# Altium footprint library Led.PcbLib: 80 footprints (part 4 of 5)
Each footprint in its own frame and in the unit in brackets; x right, y up, seen from the top. Pads: shape width x height; smd on the part's side, far side on the other; paste and mask are expansions set on the pad; w line width, h text height; cw(c..) or ccw(c..) is an arc to the next point about the centre after c.
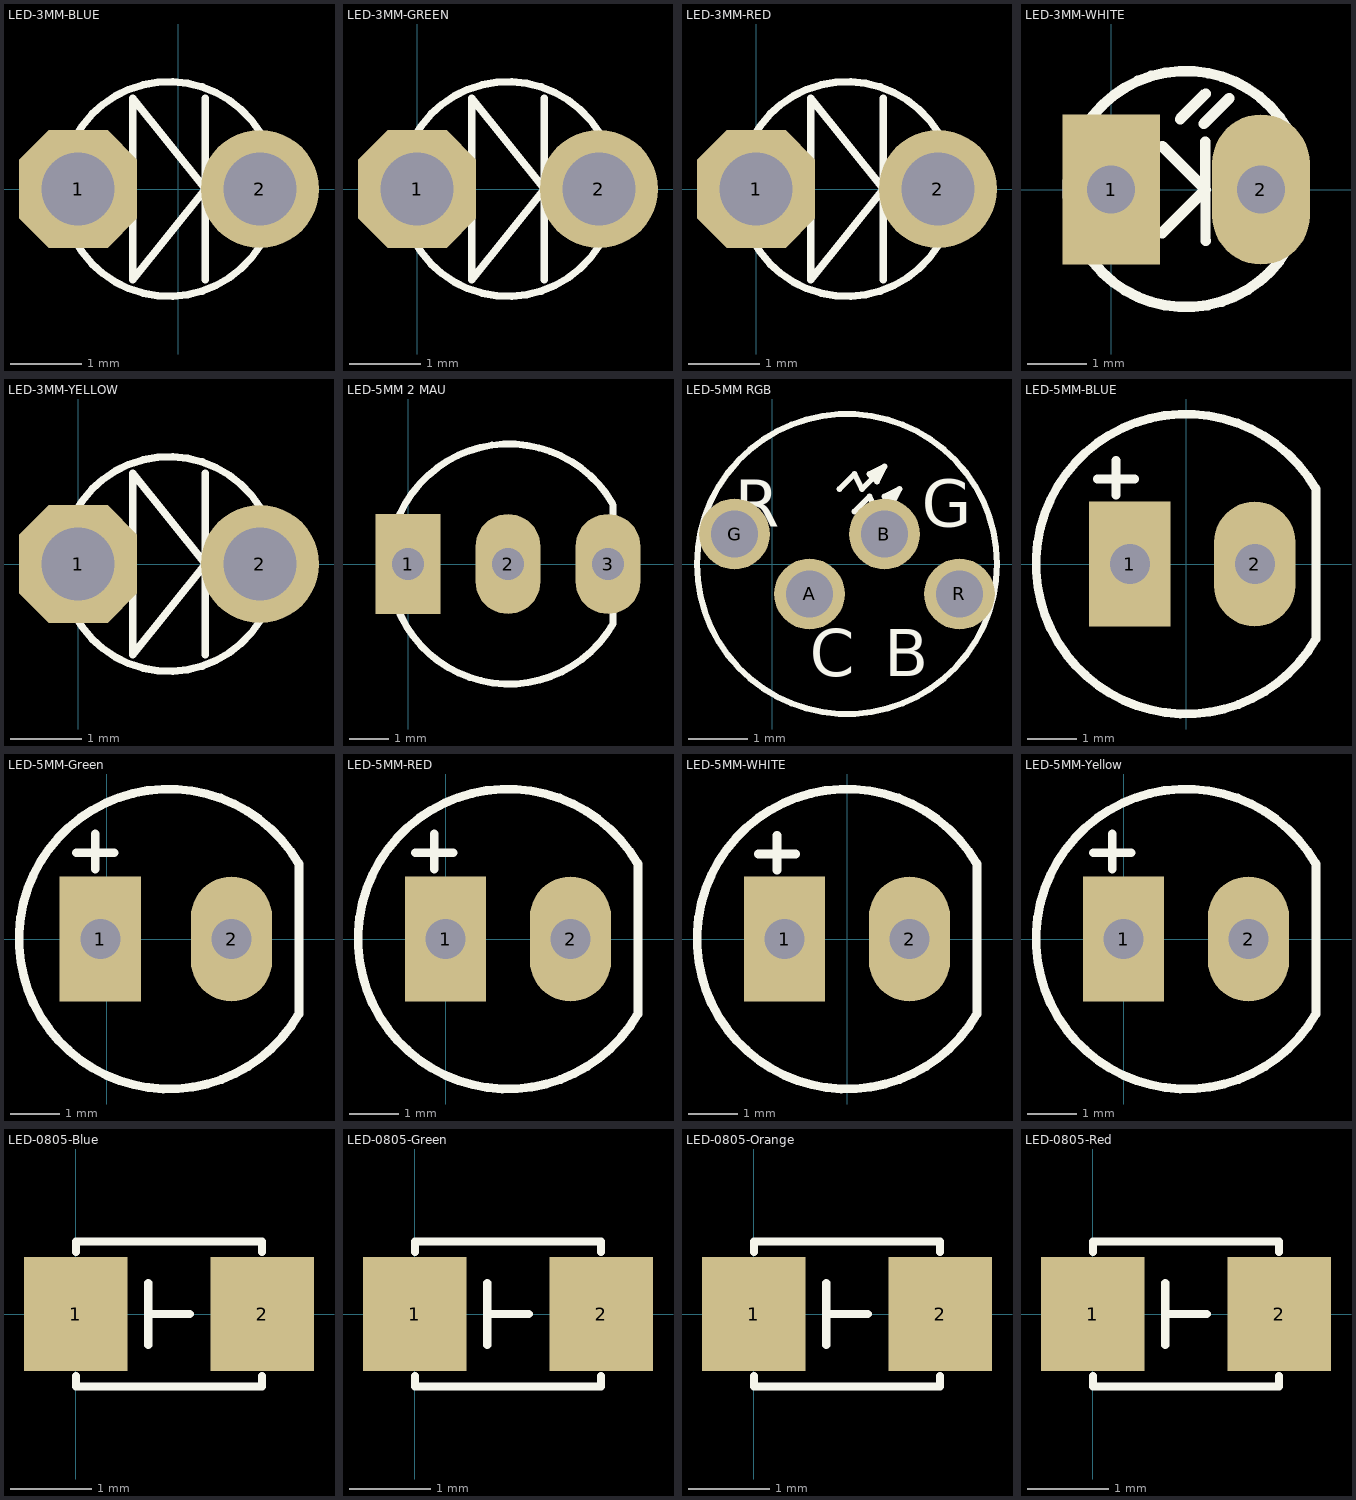
[diagram p3: the footprints below, top view; thin cyan lines are the x and y axes]

## LED-3MM-BLUE [mil]
pads (2):
  oct 65x65 hole 40: 1(-55,0)
  round 65 hole 40: 2(45,0)
Top Overlay:
  circle w4: c-5,0 r59.06
  lines w4: 15,-50 15,0 ; 15,50 15,0 ; 15,0 -25,50 -25,-50 15,0
3D body "User Library-LED_d3-BLU.STEP": height 184.06, standoff -110.24, extent -72.46,-64.95 54.06,64.96

## LED-3MM-GREEN [mil]
pads (2):
  oct 65x65 hole 40: 1(0,0)
  round 65 hole 40: 2(100,0)
Top Overlay:
  circle w4: c50,0 r59.06
  lines w4: 70,-50 70,0 ; 70,50 70,0 ; 70,0 30,-50 30,50 70,0
3D body "User Library-LED_d3-GRN.STEP": height 182.09, standoff -112.2, extent -15,-69.91 111.51,60

## LED-3MM-RED [mil]
pads (2):
  oct 65x65 hole 40: 1(0,0)
  round 65 hole 40: 2(100,0)
Top Overlay:
  circle w4: c50,0 r59.06
  lines w4: 70,-50 70,0 ; 70,50 70,0 ; 70,0 30,50 30,-50 70,0
3D body "User Library-LED-D3R.step": height 181.1, standoff -255.91, extent -27.18,-77.48 117.18,80

## LED-3MM-WHITE [mil] "LED 2 PIN, 3ly Only colour"
height 300
pads (2):
  rect 65x100 hole 32: 1(0,0)
  oval 65x100 hole 32: 2(100,0)
Top Overlay:
  lines w7: 34,-29 63,0 34,29 ; 46,47 63,64 ; 62,44 79,61 ; 63,-34 63,32 ; 117.92,-39.35 117.92,39.84
  lines w7.01: 117.57,-39.74 cw(c49.8,0.35) 117.72,40.19
3D body "SW3DPS-LED DIP 3MM-DEFAULT.STEP": height 217.14, standoff -117.51, extent -24.8,-74.81 112.99,74.8

## LED-3MM-YELLOW [mil]
pads (2):
  oct 65x65 hole 40: 1(0,0)
  round 65 hole 40: 2(100,0)
Top Overlay:
  circle w4: c50,0 r59.06
  lines w4: 70,-50 70,0 ; 70,50 70,0 ; 70,0 30,50 30,-50 70,0
3D body "User Library-LED-D3Y.step": height 181.1, standoff -255.91, extent -27.18,-77.48 117.18,80

## LED-5MM 2 MAU [mil] "LED 3 PIN, 5 ly , Two colour"
height 300
pads (3):
  rect 65x100 hole 32: 1(0,0)
  oval 65x100 hole 32: 2(100,0) 3(200,0)
Top Overlay:
  lines w7: 204.51,60.71 ccw(c101,0) 204.94,-59.97 ; 205,-59 205,59
3D body "User Library-5mmBiColorLED.step": height 426.6, standoff -102.4, extent -16,-115.98 210,115.98

## LED-5MM RGB [mm]
pads (4):
  round 1.2 hole 0.8: A(0.635,-0.508) B(1.905,0.508) G(-0.635,0.508) R(3.175,-0.508)
Top Overlay:
  circle w0.102: c1.27,0 r2.54
  lines w0.102: 1.143,1.27 1.397,1.524 1.524,1.27 1.905,1.651 ; 1.397,0.889 1.651,1.143 1.778,0.889 2.159,1.27 ; 1.718,1.464 1.651,1.524 ; 1.972,1.083 1.905,1.143 ; 1.651,1.524 1.905,1.651 ; 1.651,1.524 1.778,1.397 1.905,1.651 ; 1.905,1.143 2.159,1.27 ; 1.905,1.143 2.032,1.016 2.159,1.27
  text "C" at 0.635,-1.905 h0.8
  text "G" at 2.54,0.635 h0.8
  text "B" at 1.905,-1.905 h0.8
  text "R" at -0.635,0.635 h0.8
3D body: height 4.06, standoff 3.81, extent 0.381,-0.813 2.21,-0.254
3D body: height 4.06, standoff 3.81, extent 2.464,-0.711 2.692,-0.356
3D body: height 1.52, standoff -3.05, extent 2.908,-0.838 3.543,-0.203
3D body: height 3.81, standoff 1.27, extent 2.464,-0.838 3.556,-0.203
3D body: height 4.06, standoff 3.81, extent 0.457,0 0.813,0.229
3D body: height 1.52, standoff -3.05, extent 0.33,-0.851 0.965,-0.216
3D body: height 3.81, standoff 1.27, extent 0.33,-0.864 0.965,0.229
3D body: height 1.27, standoff -3.05, extent 1.524,0.216 2.159,0.851
3D body: height 3.81, standoff 1.27, extent -0.889,0.203 0.203,0.838
3D body: height 3.81, standoff 1.27, extent 1.067,0.216 2.159,0.851
3D body: height 4.06, standoff 3.81, extent 0.356,-0.965 0.914,0.864
3D body: height 1.52, standoff -3.05, extent -0.876,0.203 -0.241,0.838
3D body: height 4.06, standoff 3.81, extent -0.025,0.356 0.203,0.711
3D body: height 4.06, standoff 3.81, extent 1.27,0.406 1.524,0.66
3D body: height 6.86, standoff 1.78, extent -1.27,-2.54 3.79,2.53
3D body: height 9.4, standoff 4.32, extent -1.27,-2.54 3.783,2.518
3D body: height 2.79, standoff 1.78, extent -1.401,-2.667 3.912,2.656

## LED-5MM-BLUE [mil] "LED 2 PIN, 5 ly , Only colour, pin to pin 110mil"
height 300
pads (2):
  rect 65x100 hole 32: 1(-45,0)
  oval 65x100 hole 32: 2(55,0)
Top Overlay:
  lines w7: -71,68 -41,68 ; -56,55 -56,83 ; 103.51,60.71 ccw(c0,0) 103.94,-59.97 ; 104,-59 104,60
3D body "User Library-LEDd5B.STEP": height 339.18, standoff -243.49, extent -113.31,-120.49 100.08,116.5

## LED-5MM-Green [mil] "LED 2 PIN, 5 ly , Only colour,pin to pin 100mil"
height 300
pads (2):
  rect 65x100 hole 32: 1(-5,0)
  oval 65x100 hole 32: 2(100,0)
Top Overlay:
  lines w7: -24,69 6,69 ; -9,56 -9,84 ; 153.51,60.71 ccw(c50,0) 153.94,-59.97 ; 154,-59 154,60
3D body "SW3dPS-LEDd5G.STEP": height 339.18, standoff -243.49, extent -68.69,-119.99 144.69,117

## LED-5MM-RED [mil] "LED 2 PIN, 5 ly , Only colour,pin to pin 100mil"
height 300
pads (2):
  rect 65x100 hole 32: 1(0,0)
  oval 65x100 hole 32: 2(100,0)
Top Overlay:
  lines w7: -24,69 6,69 ; -9,56 -9,84 ; 153.51,60.71 ccw(c50,0) 153.94,-59.97 ; 154,-59 154,60
3D body "SW3dPS-LEDd5R.STEP": height 339.18, standoff -243.49, extent -64.69,-119 148.69,117.99

## LED-5MM-WHITE [mil] "LED 2 PIN, 5 ly , Only colour, pin to pin 110mil"
height 300
pads (2):
  rect 65x100 hole 32: 1(-50,0)
  oval 65x100 hole 32: 2(50,0)
Top Overlay:
  lines w7: -71,68 -41,68 ; -56,55 -56,83 ; 103.51,60.71 ccw(c0,0) 103.94,-59.97 ; 104,-59 104,60
3D body "5 mm yellow led.step": height 340.05, standoff -767.12, extent -124,-125 120.88,120.26

## LED-5MM-Yellow [mil] "LED 2 PIN, 5 ly , Only colour,pin to pin 100mil"
height 300
pads (2):
  rect 65x100 hole 32: 1(0,0)
  oval 65x100 hole 32: 2(100,0)
Top Overlay:
  lines w7: -24,69 6,69 ; -9,56 -9,84 ; 153.51,60.71 ccw(c50,0) 153.94,-59.97 ; 154,-59 154,60
3D body "SW3dPS-LEDd5O.STEP": height 339.18, standoff -243.49, extent -66.69,-121.99 146.69,115

## LED-0805-Blue [mil]
pads (2):
  rect 50x55 smd: 1(0,0) 2(90,0)
Top Overlay:
  lines w3.94: 35,-15 35,15 ; 35,0 55,0
  lines w4: 0,-30 0,-35 90,-35 90,-30 ; 0,30 0,35 90,35 90,30
3D body "User Library-led_0805-blue.step": height 43.31, standoff 0, extent 5.24,-24.61 84.76,24.6

## LED-0805-Green [mil]
pads (2):
  rect 50x55 smd: 1(0,0) 2(90,0)
Top Overlay:
  lines w3.94: 35,-15 35,15 ; 35,0 55,0
  lines w4: 0,-30 0,-35 90,-35 90,-30 ; 0,30 0,35 90,35 90,30
3D body "User Library-led_0805-Green.step": height 43.31, standoff 0, extent 5.24,-24.6 84.76,24.6

## LED-0805-Orange [mil]
pads (2):
  rect 50x55 smd: 1(0,0) 2(90,0)
Top Overlay:
  lines w3.94: 35,-15 35,15 ; 35,0 55,0
  lines w4: 0,-30 0,-35 90,-35 90,-30 ; 0,30 0,35 90,35 90,30
3D body "User Library-led_0805-orange.step": height 43.31, standoff 0, extent 5.24,-24.6 84.77,24.61

## LED-0805-Red [mil]
pads (2):
  rect 50x55 smd: 1(0,0) 2(90,0)
Top Overlay:
  lines w3.94: 35,-15 35,15 ; 35,0 55,0
  lines w4: 0,-30 0,-35 90,-35 90,-30 ; 0,30 0,35 90,35 90,30
3D body "User Library-led_0805-red.step": height 43.31, standoff 0, extent 5.24,-24.6 84.77,24.61